# EAGLE library part EB-570 (library X893)
http://www.transystem.com.tw/files/EB-570%20Data%20Sheet%20V1.0.pdf
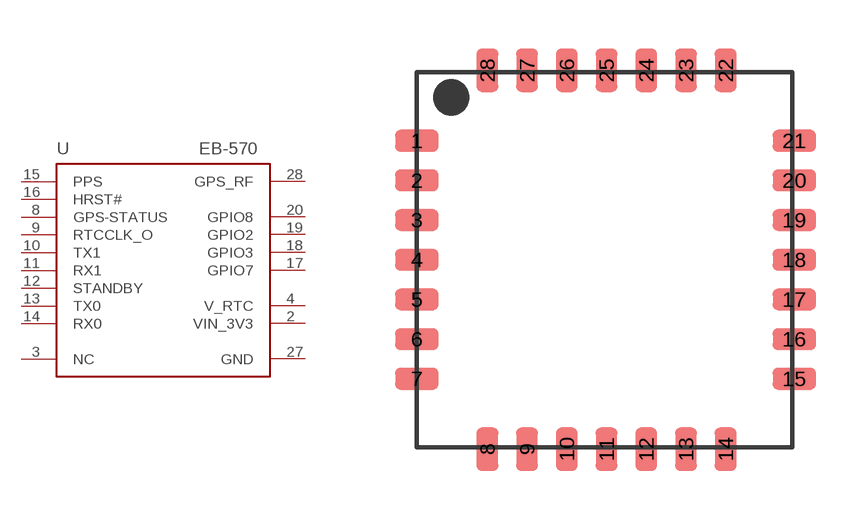
[diagram p68: symbol with the pads of EB-570; footprint EB-570]

Designator prefix U

## EB-570  [EB-570]
1  GND  pwr
2  VIN_3V3  pas
3  NC  pas
4  V_RTC  pas
5  GND  pwr
6  GND  pwr
7  GND  pwr
8  GPS-STATUS  out
9  RTCCLK_O  out
10  TX1  out
11  RX1  in
12  STANDBY  in
13  TX0  out
14  RX0  in
15  PPS  in
16  HRST#  in
17  GPIO7
18  GPIO3
19  GPIO2
20  GPIO8
21  GND  pwr
22  GND  pwr
23  GND  pwr
24  GND  pwr
25  GND  pwr
26  GND  pwr
27  GND  pwr
28  GPS_RF  pas

## Footprint EB-570 (pad centres in mm)
http://www.transystem.com.tw/files/EB-570%20Data%20Sheet%20V1.0.pdf
smd 1.2 x 0.6: 1 -5.2,3.3; 2 -5.2,2.2; 3 -5.2,1.1; 4 -5.2,0; 5 -5.2,-1.1; 6 -5.2,-2.2; 7 -5.2,-3.3; 15 5.25,-3.3; 16 5.25,-2.2; 17 5.25,-1.1; 18 5.25,0; 19 5.25,1.1; 20 5.25,2.2; 21 5.25,3.3
smd 0.6 x 1.2: 8 -3.25,-5.25; 9 -2.15,-5.25; 10 -1.05,-5.25; 11 0.05,-5.25; 12 1.15,-5.25; 13 2.25,-5.25; 14 3.35,-5.25; 22 3.35,5.25; 23 2.25,5.25; 24 1.15,5.25; 25 0.05,5.25; 26 -1.05,5.25; 27 -2.15,5.25; 28 -3.25,5.25